# EAGLE library part 11PI_RESISTOR_COMMON (library NU STEM)
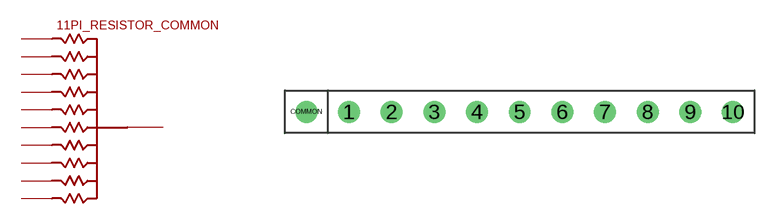
[diagram p2: symbol with the pads of 11-PIN-RESISTOR; footprint 11-PIN-RESISTOR]

Designator prefix -

## 11PI_RESISTOR_COMMON  [11-PIN-RESISTOR]
1  1
2  2
3  3
4  4
5  5
6  6
7  7
8  8
9  9
10  10
COMMON  COMMON

## Footprint 11-PIN-RESISTOR (pad centres in mm)
drill 0.8: 1 -10.16,0; 2 -7.62,0; 3 -5.08,0; 4 -2.54,0; 5 0,0; 6 2.54,0; 7 5.08,0; 8 7.62,0; 9 10.16,0; 10 12.7,0; COMMON -12.7,0